# Altium footprint library DIYSynth.PcbLib: 4 footprints
Each footprint in its own frame and in the unit in brackets; x right, y up, seen from the top. Pads: shape width x height; smd on the part's side, far side on the other; paste and mask are expansions set on the pad; w line width, h text height; cw(c..) or ccw(c..) is an arc to the next point about the centre after c.
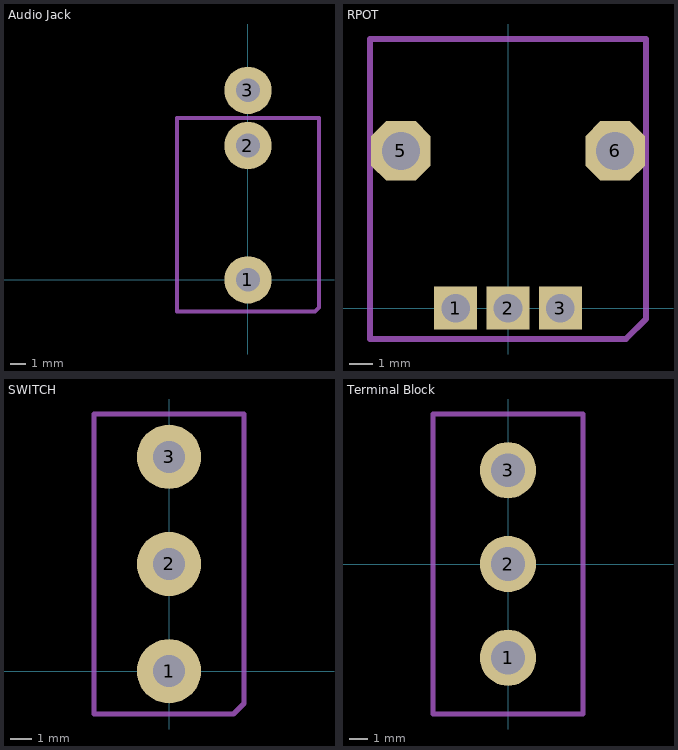
[diagram p0: the footprints below, top view; thin cyan lines are the x and y axes]

## Audio Jack [mm]
pads (3):
  round 3 hole 1.5 unplated: 1(0,0) 2(0,8.5) 3(0,12)
Mechanical 1:
  region: -14.5,11
  lines w0.254: -4.5,-2 -4.5,10.25 4.5,10.25 4.5,-1.75 4.25,-2 -4.5,-2

## RPOT [mm]
pads (5):
  rect 1.8x1.8 hole 1.2 unplated: 1(-2.2,0) 2(0,0) 3(2.2,0)
  oct 2.5x2.5 hole 1.6 unplated: 5(-4.5,6.6) 6(4.5,6.6)
Mechanical 1:
  lines w0.254: -5.8,-1.3 4.95,-1.3 5.8,-0.45 5.8,11.3 -5.8,11.3 -5.8,-1.3

## SWITCH [mm]
pads (3):
  round 3 hole 1.5 unplated: 1(0,0) 2(0,5) 3(0,10)
Mechanical 1:
  lines w0.254: -3.5,-2 3,-2 3.5,-1.5 3.5,12 -3.5,12 -3.5,-2

## Terminal Block [mm]
pads (3):
  round 3 hole 1.8 unplated: 1(0,-5) 2(0,0) 3(0,5)
Mechanical 1:
  lines w0.254: -4,-8 0,-8 4,-8 4,8 -4,8 -4,-8